# Altium footprint library mylib.PcbLib: 127 footprints (part 1 of 8)
Each footprint in its own frame and in the unit in brackets; x right, y up, seen from the top. Pads: shape width x height; smd on the part's side, far side on the other; paste and mask are expansions set on the pad; w line width, h text height; cw(c..) or ccw(c..) is an arc to the next point about the centre after c.
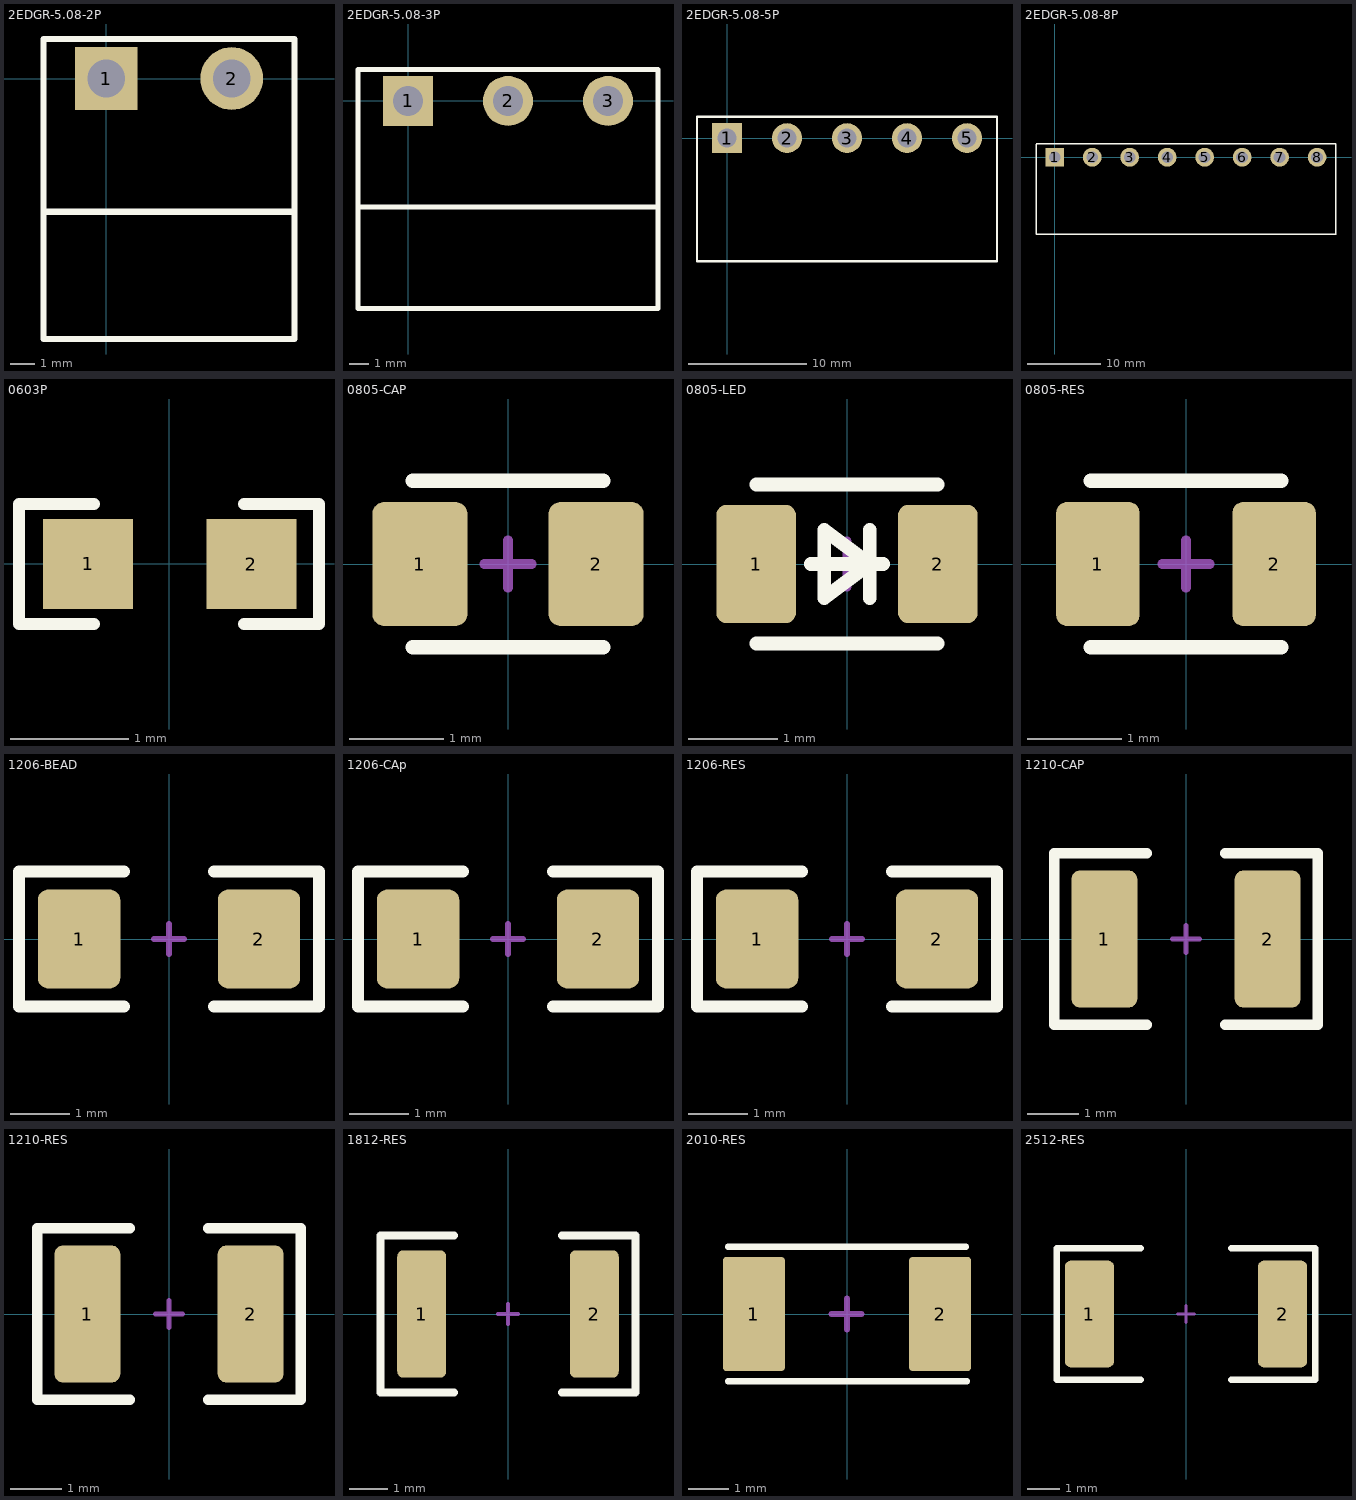
[diagram p0: the footprints below, top view; thin cyan lines are the x and y axes]

## 2EDGR-5.08-2P [mil]
pads (2):
  rect 100x100 hole 60: 1(0,0)
  round 100 hole 60: 2(200,0)
Top Overlay:
  lines w10: -100,-212.6 300,-212.6 ; 299,62.99 -100,62.99 -100,-415.35 300,-415.35 300,62.99

## 2EDGR-5.08-3P [mil] "接插件"
pads (3):
  rect 100x100 hole 60: 1(0,0)
  round 100 hole 60: 2(200,0) 3(400,0)
Top Overlay:
  lines w10: -100,-212.6 500,-212.6 ; -100,-415.35 500,-415.35 500,62.99 -100,62.99 -100,-415.35

## 2EDGR-5.08-5P [mm] "接插件"
pads (5):
  rect 2.54x2.54 hole 1.6: 1(0,0)
  round 2.54 hole 1.6: 2(5.08,0) 3(10.16,0) 4(15.24,0) 5(20.32,0)
Top Overlay:
  lines w0.2: -2.54,1.792 -2.54,-10.414 22.86,-10.414 22.86,1.8 ; -2.54,1.8 22.835,1.8

## 2EDGR-5.08-8P [mm] "接插件"
pads (8):
  rect 2.54x2.54 hole 1.6: 1(0,0)
  round 2.54 hole 1.6: 2(5.08,0) 3(10.16,0) 4(15.24,0) 5(20.32,0) 6(25.4,0) 7(30.48,0) 8(35.56,0)
Top Overlay:
  lines w0.2: -2.54,1.792 -2.54,-10.414 38.125,-10.414 ; -2.54,1.8 38.1,1.8 38.1,-10.414

## 0603P [mil]
pads (2):
  rect 30x30 smd: 1(-27,0) 2(27.5,-0.06)
Top Overlay:
  lines w3.94: -25,-20.06 -50,-20.06 -50,19.94 -25,19.94 ; 25,-20.06 50,-20.06 50,19.94 25,19.94

## 0805-CAP [mil]
pads (2):
  rrect25% 40x52 smd: 1(-37,0) 2(37,0)
Top Overlay:
  lines w6: -40,-35 40,-35 ; -40,35 40,35
Mechanical 1:
  lines w4: -10,0 10,0 ; 0,-10 0,10
3D body: height 47.24, standoff 0, extent -39.37,-24 39.37,23.24

## 0805-LED [mil]
pads (2):
  rrect25% 35x52 smd: 1(-40,0) 2(40,0)
Top Overlay:
  lines w6: -40,-35 40,-35 ; -40,35 40,35 ; -16,0 16,0 ; 10,-15 10,15 ; -10,-15 10,0 -10,15 -10,-15
Mechanical 1:
  lines w4: -10,0 10,0 ; 0,-10 0,10
3D body: height 43.31, standoff 0, extent -39.77,-25 39.76,24.21

## 0805-RES [mil]
pads (2):
  rrect25% 35x52 smd: 1(-37,0) 2(37,0)
Top Overlay:
  lines w6: -40,-35 40,-35 ; -40,35 40,35
Mechanical 1:
  lines w4: -10,0 10,0 ; 0,-10 0,10
3D body: height 17.76, standoff 0, extent -39,-25 39.74,24.21

## 1206-BEAD [mil]
pads (2):
  rrect25% 55x66 smd: 1(-60,0) 2(60,0)
Top Overlay:
  lines w8: -30,-45 -100,-45 -100,45 -30,45 ; 30,-45 100,-45 100,45 30,45
Mechanical 1:
  lines w4: -10,0 10,0 ; 0,-10 0,10
3D body: height 59.06, standoff 0, extent -62.99,-31 62.99,31.99

## 1206-CAp [mil]
pads (2):
  rrect25% 55x66 smd: 1(-60,0) 2(60,0)
Top Overlay:
  lines w8: -30,-45 -100,-45 -100,45 -30,45 ; 30,-45 100,-45 100,45 30,45
Mechanical 1:
  lines w4: -10,0 10,0 ; 0,-10 0,10
3D body: height 49.21, standoff 0, extent -63,-32 62.98,30.99

## 1206-RES [mil]
pads (2):
  rrect25% 55x66 smd: 1(-60,0) 2(60,0)
Top Overlay:
  lines w8: -30,-45 -100,-45 -100,45 -30,45 ; 30,-45 100,-45 100,45 30,45
Mechanical 1:
  lines w4: -10,0 10,0 ; 0,-10 0,10
3D body: height 21.69, standoff 0, extent -62.99,-31 62.99,31.99

## 1210-CAP [mil]
pads (2):
  rrect25% 50x104 smd: 1(-62,0) 2(62,0)
Top Overlay:
  lines w8: -30,-65 -100,-65 -100,65 -30,65 ; 30,-65 100,-65 100,65 30,65
Mechanical 1:
  lines w4: -10,0 10,0 ; 0,-10 0,10
3D body: height 51.18, standoff 0, extent -62.99,-50 62.99,48.43

## 1210-RES [mil]
pads (2):
  rrect25% 50x104 smd: 1(-62,0) 2(62,0)
Top Overlay:
  lines w8: -30,-65 -100,-65 -100,65 -30,65 ; 30,-65 100,-65 100,65 30,65
Mechanical 1:
  lines w4: -10,0 10,0 ; 0,-10 0,10
3D body: height 21.65, standoff 0, extent -62.99,-49 62.99,49.43

## 1812-RES [mil]
pads (2):
  rrect25% 50x130 smd: 1(-88,0) 2(88,0)
Top Overlay:
  lines w8: -55,-80 -130,-80 -130,80 -55,80 ; 55,-80 130,-80 130,80 55,80
Mechanical 1:
  lines w4: -10,0 10,0 ; 0,-10 0,10
3D body: height 23.81, standoff 0.19, extent -88.59,-62.98 88.58,63

## 2010-RES [mil]
pads (2):
  rrect10% 60x110 smd: 1(-90,0) 2(90,0)
Top Overlay:
  lines w6: -115,-65 116,-65 ; -115,65 115,65
Mechanical 15:
  lines w6: -15,0 14,0 ; 0,-15 0,15
3D body: height 24.02, standoff -0.39, extent -98.82,-49.6 98.82,49.61

## 2512-RES [mil]
pads (2):
  rrect25% 60x130 smd: 1(-117.53,0) 2(117.53,0)
Top Overlay:
  lines w8: -55,-80 -157.48,-80 -157.48,80 -55,80 ; 55,-80 157.48,-80 157.48,80 55,80
Mechanical 1:
  lines w4: -10,0 10,0 ; 0,-10 0,10
3D body: height 23.62, standoff 0, extent -124.02,-62.99 127.95,62.99